# Altium footprint library 1_to_5_Pin.PcbLib: 194 footprints (part 5 of 13)
Each footprint in its own frame and in the unit in brackets; x right, y up, seen from the top. Pads: shape width x height; smd on the part's side, far side on the other; paste and mask are expansions set on the pad; w line width, h text height; cw(c..) or ccw(c..) is an arc to the next point about the centre after c.
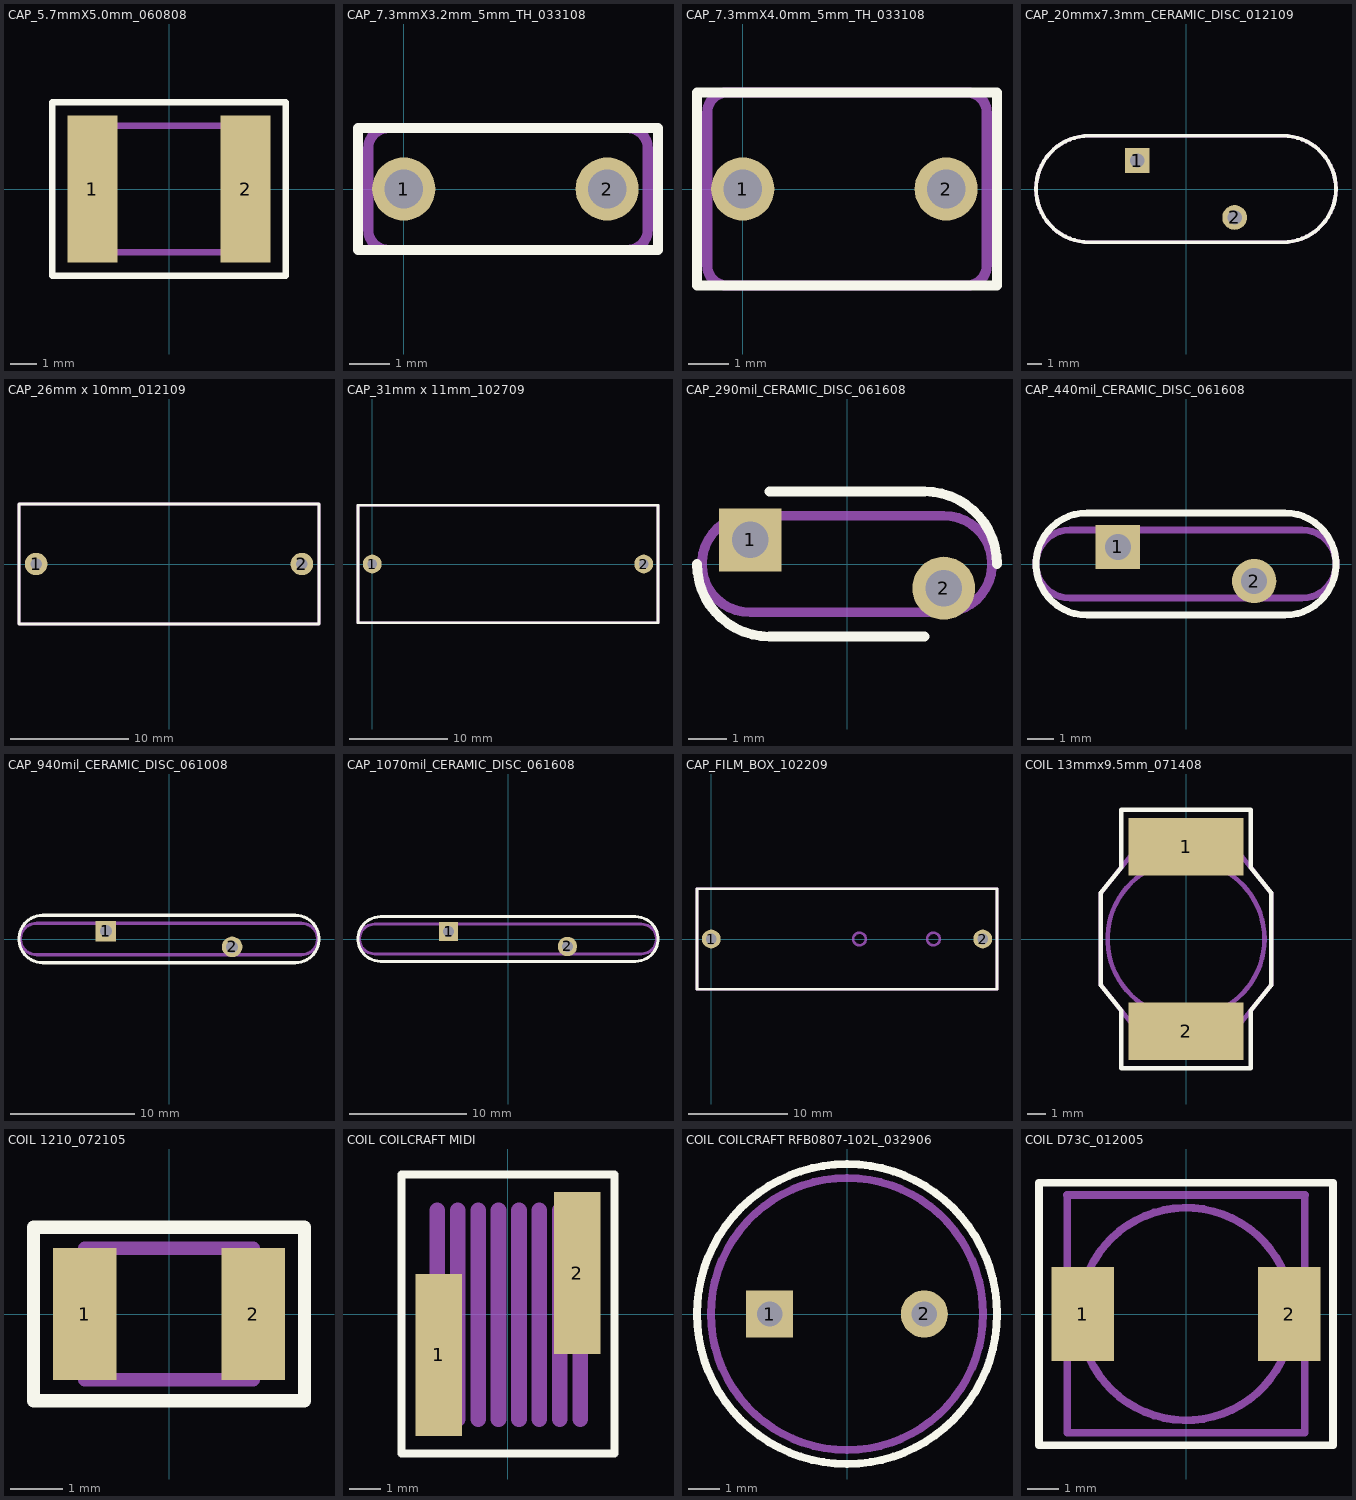
[diagram p4: the footprints below, top view; thin cyan lines are the x and y axes]

## CAP_5.7mmX5.0mm_060808 [mil] "SMT"
height 91
pads (2):
  rect 75x220 smd: 1(-115,0) 2(115,0)
Top Overlay:
  lines w10: -175,-130 0,-130 175,-130 175,130 0,130 -175,130 -175,-130
Assembly Outline:
  lines w10: -112,-95 112,-95 112,95 -112,95 -112,-95
Assembly Designator:
  text ".Designator" at -35,-15 h40
Assembly Comment:
  text ".Comment" at -85,-180 h40

## CAP_7.3mmX3.2mm_5mm_TH_033108 [mil] "TH"
height 200
pads (2):
  round 62 hole 38: 1(0,0) 2(200,0)
Top Overlay:
  lines w10: -45,-60 250,-60 250,60 -45,60 -45,-60
Assembly Outline:
  lines w10: -35,-40 ccw(c-15,-40) -15,-60 220,-60 ccw(c220,-40) 240,-40 240,40 ccw(c220,40) 220,60 -15,60 ccw(c-15,40) -35,40 -35,-40
Assembly Designator:
  text ".Designator" at 35,-20 h40
Assembly Comment:
  text ".Comment" at -10,-115 h40

## CAP_7.3mmX4.0mm_5mm_TH_033108 [mil] "TH"
height 200
pads (2):
  round 62 hole 38: 1(0,0) 2(200,0)
Top Overlay:
  lines w10: -45,-95 250,-95 250,95 -45,95 -45,-95
Assembly Outline:
  lines w10: -35,-75 ccw(c-15,-75) -15,-95 220,-95 ccw(c220,-75) 240,-75 ; -35,75 cw(c-15,75) -15,95 220,95 cw(c220,75) 240,75
Assembly Designator:
  text ".Designator" at 35,-20 h40
Assembly Comment:
  lines w10: -35,-75 -35,75 ; 240,-75 240,75
  text ".Comment" at -30,-150 h40

## CAP_20mmx7.3mm_CERAMIC_DISC_012109 [mil] "TH"
height 1100
pads (2):
  rect 65x65 hole 38: 1(-128,75)
  round 65 hole 38: 2(128,-75)
Top Overlay:
  lines w10: -255,-140 cw(c-255,0) -255,140 255,140 cw(c255,0) 255,-140 -255,-140
Assembly Outline:
  lines w10: -255,-140 cw(c-255,0) -255,140 255,140 cw(c255,0) 255,-140 -255,-140
Assembly Designator:
  text ".Designator" at -65,-20 h40
Assembly Comment:
  text ".Comment" at -190,-110 h40

## CAP_26mm x 10mm_012109 [mil] "TH"
height 770
pads (2):
  round 75 hole 38: 1(-443,0) 2(443,0)
Top Overlay:
  lines w10: -500,-200 -500,200 500,200 500,-200 -500,-200
Assembly Outline:
  lines w10: -500,-200 -500,200 500,200 500,-200 -500,-200
Assembly Designator:
  text ".Designator" at -71.85,-13.78 h40
Assembly Comment:
  text ".Comment" at -335,-170 h40

## CAP_31mm x 11mm_102709 [mil] "TH"
height 825
pads (2):
  round 75 hole 38: 1(0,0) 2(1083,0)
Top Overlay:
  lines w10: -57,-235 -57,235 1140,235 1140,-235 -57,-235
Assembly Outline:
  lines w10: -57,-235 -57,235 1140,235 1140,-235 -57,-235
Assembly Designator:
  text ".Designator" at 371.15,-13.78 h40
Assembly Comment:
  text ".Comment" at 108,-170 h40

## CAP_290mil_CERAMIC_DISC_061608 [mil] "TH"
height 500
pads (2):
  rect 65x65 hole 38: 1(-100,25)
  round 65 hole 38: 2(100,-25)
Top Overlay:
  lines w10: -155,0 ccw(c-80,0) -80,-75 80,-75 ; -80,75 80,75 cw(c80,0) 155,0
Assembly Outline:
  lines w10: -100,-50 cw(c-100,0) -100,50 100,50 cw(c100,0) 100,-50 -100,-50
Assembly Designator:
  text ".Designator" at -65,-20 h40
Assembly Comment:
  text ".Comment" at -190,-110 h40

## CAP_440mil_CERAMIC_DISC_061608 [mil] "TH"
height 620
pads (2):
  rect 65x65 hole 38: 1(-100,25)
  round 65 hole 38: 2(100,-25)
Top Overlay:
  lines w10: -145,-75 cw(c-145,0) -145,75 145,75 cw(c145,0) 145,-75 -145,-75
Assembly Outline:
  lines w10: -170,-50 cw(c-170,0) -170,50 170,50 cw(c170,0) 170,-50 -170,-50
Assembly Designator:
  text ".Designator" at -65,-20 h40
Assembly Comment:
  text ".Comment" at -190,-110 h40

## CAP_940mil_CERAMIC_DISC_061008 [mil] "TH"
height 1130
pads (2):
  rect 65x65 hole 38: 1(-200,25)
  round 65 hole 38: 2(200,-25)
Top Overlay:
  lines w10: -400,-75 cw(c-400,0) -400,75 400,75 cw(c400,0) 400,-75 -400,-75
Assembly Outline:
  lines w10: -420,-50 cw(c-420,0) -420,50 420,50 cw(c420,0) 420,-50 -420,-50
Assembly Designator:
  text ".Designator" at -65,-15 h40
Assembly Comment:
  text ".Comment" at -300,-110 h40

## CAP_1070mil_CERAMIC_DISC_061608 [mil] "TH"
height 1250
pads (2):
  rect 65x65 hole 38: 1(-200,25)
  round 65 hole 38: 2(200,-25)
Top Overlay:
  lines w10: -430,-75 cw(c-430,0) -430,75 430,75 cw(c430,0) 430,-75 -430,-75
Assembly Outline:
  lines w10: -450,-50 cw(c-450,0) -450,50 450,50 cw(c450,0) 450,-50 -450,-50
Assembly Designator:
  text ".Designator" at -75,-20 h40
Assembly Comment:
  text ".Comment" at -280,-110 h40

## CAP_FILM_BOX_102209 [mil] "TH"
height 770
pads (2):
  round 75 hole 42: 1(0,0) 2(1082,0)
Top Overlay:
  lines w10: -57,-200 -57,200 1139,200 1139,-200 -57,-200
Assembly Outline:
  circle w10: c886,0 r25
  circle w10: c591,0 r25
  lines w10: -57,-200 -57,200 1139,200 1139,-200 -57,-200
Assembly Designator:
  text ".Designator" at 371.15,-13.78 h40
Assembly Comment:
  text ".Comment" at 108,-170 h40

## COIL 13mmx9.5mm_071408 [mil] "SMT"
height 220
pads (2):
  rect 250x125 smd: 1(0,200) 2(0,-200)
Top Overlay:
  lines w10: -185,-100 -185,100 -140,155 -140,280 140,280 140,155 185,100 185,-100 140,-155 140,-280 -140,-280 -140,-155 -185,-100
Assembly Outline:
  circle w10: c0,0 r170
  lines w10: -116.11,-185.09 -185,-100 -185,100 -116.11,185.09 ; -116,-185 116,-185 ; -116,185 116,185 ; -20,-185 -20,-225 20,-225 20,-185 ; -20,185 -20,225 20,225 20,185 ; 116.11,-185.09 185,-100 185,100 116.11,185.09
Assembly Designator:
  text ".Designator" at -65,-15 h40
Assembly Comment:
  text ".Comment" at -115,-100 h40

## COIL 1210_072105 [mm] "SMT"
height 2
pads (2):
  rect 1.2x2.5 smd: 1(-1.6,0) 2(1.6,0)
Top Overlay:
  lines w0.254: -2.575,-1.65 0,-1.65 2.575,-1.65 2.575,0 2.575,1.65 0,1.65 -2.575,1.65 -2.575,0 -2.575,-1.65
Assembly Outline:
  lines w0.254: -1.6,0 -1.6,1.25 ; -1.6,1.25 -1.6,-1.25 1.6,-1.25 1.6,1.25 -1.6,1.25
Assembly Designator:
  text ".Designator" at -0.75,-0.475 h1.02
Assembly Comment:
  text ".Comment" at -2.75,-3.025 h1.02

## COIL COILCRAFT MIDI [mm] "SMT"
height 4.2
pads (2):
  rect 1.48x5.16 smd: 1(-2.2,-1.3) 2(2.2,1.3)
Top Overlay:
  lines w0.254: -3.4,-4.45 -3.4,-3.5 -3.4,4.45 0.05,4.45 3.4,4.45 3.4,3.5 3.4,-4.45 -0.05,-4.45 -3.4,-4.45
Assembly Outline:
  lines w0.5: -2.25,-3.35 -2.25,3.3 ; -1.6,-3.35 -1.6,3.3 ; -0.95,-3.35 -0.95,3.3 ; -0.3,-3.35 -0.3,3.3 ; 0.35,-3.35 0.35,3.3 ; 1,-3.35 1,3.3 ; 1.65,-3.35 1.65,3.3 ; 2.3,-3.35 2.3,3.3
Assembly Designator:
  text ".Designator" at -0.8,-0.5 h1.02
Assembly Comment:
  text ".Comment" at -2.6,-5.95 h1.02

## COIL COILCRAFT RFB0807-102L_032906 [mil] "TH"
height 295.28
pads (2):
  rect 60x60 hole 32.01: 1(-98.43,0)
  round 60 hole 32.01: 2(98.43,0)
Top Overlay:
  circle w10: c0,0 r190.94
Assembly Outline:
  circle w10: c0,0 r173.23
Assembly Designator:
  text ".Designator" at -30.51,-18.7 h40
Assembly Comment:
  text ".Comment" at -113.19,-92.52 h40

## COIL D73C_012005 [mm] "SMT"
height 5.334
pads (2):
  rect 2x3 smd: 1(-3.3,0) 2(3.3,0)
Top Overlay:
  lines w0.254: -4.7,-4.2 4.7,-4.2 4.7,0.1 4.7,4.2 -4.7,4.2 -4.7,-4.2
Assembly Outline:
  circle w0.254: c0,0 r3.4
  lines w0.254: -3.8,-1 -4.1,-1 -4.1,1 -3.8,1 -3.8,0 ; -3.8,3.8 -3.8,0 ; 3.8,-1 4.1,-1 4.1,1 3.8,1 3.8,0 ; 3.8,3.8 3.8,-3.8 -3.8,-3.8 -3.8,0
Assembly Designator:
  text ".Designator" at -1.143,1.397 h1.02
Assembly Comment:
  lines w0.254: -3.81,3.81 3.81,3.81
  text ".Comment" at -2.794,-0.381 h1.02